# EAGLE library part 693161011911 (library WR-CRD)
WR-CRD SD Card Connector 4.0 Push & Push with Card Detection Kind Properties Gender:Socket Type:Push & Pull General Information Operating Temperature:-20up to +60 °C Electrical Properties Working Voltage:10V (AC) Withstanding Voltage:500 V (AC) Contact Resistance:100 mΩ Material Properties Insulator MateriaL:LCP Insulator Flammability Rating:UL94 V-0 Color:Black Contact Material:Copper Alloy Contact Plating: Gold Contact Type:Stamped Shielding Material:Stainless Steel Shielding Plating:Nickel <https://www.we-online.com/components/media/o72612v209%20Family_WR-CRD_693161011911.jpg> Details see: www.we-online.com/en/components/products/CRD_SMT_SD_PUSH_AND_PUSH_CARD_DETECTION_19_PINS Created by Yingchun,Shan 2019-11-22 2019 (C) Würth Elektronik
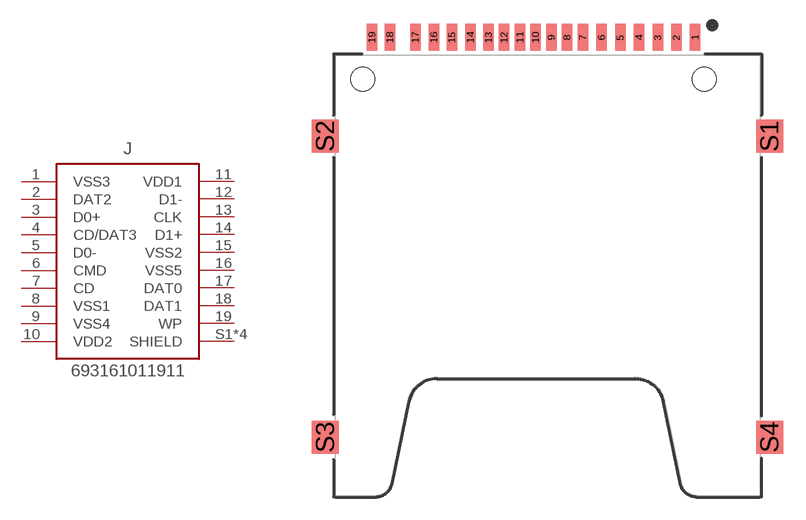
[diagram p9: symbol with the pads of 693161011911; footprint 693161011911]

Designator prefix J

## 693161011911 (DATASHEET-URL: https://www.we-online.com/redexpert/spec/693161011911?ae; GERDER: Socket; IR: 1A; MOUNT: SMT; PART-NUMBER: 693161011911; PINS: 19; TYPE: Push & Push; VALUE: 693161011911; WORKING-VOLTAGE: 10V(AC))  [693161011911]
1  VSS3
2  DAT2
3  D0+
4  CD/DAT3
5  D0-
6  CMD
7  CD
8  VSS1
9  VSS4
10  VDD2
11  VDD1
12  D1-
13  CLK
14  D1+
15  VSS2
16  VSS5
17  DAT0
18  DAT1
19  WP
S1  SHIELD
S2  SHIELD
S3  SHIELD
S4  SHIELD

## Footprint 693161011911 (pad centres in mm)
WR-CRD SD Card Connector 4.0 Push & Push with Card Detection 19 pins
smd 0.7 x 1.8: 1 9.85,0; 2 8.6,0; 3 7.35,0; 4 6.1,0; 5 4.85,0; 6 3.6,0; 7 2.35,0; 8 1.3,0; 9 0.25,0; 10 -0.8,0; 11 -1.84,0; 12 -2.9,0; 13 -3.94,0; 14 -5.15,0; 15 -6.39,0; 16 -7.59,0; 17 -8.82,0; 18 -10.52,0; 19 -11.72,0
smd 1.8 x 2.2: S1 14.825,-6.6; S2 -14.825,-6.6; S3 -14.825,-26.7; S4 14.825,-26.7
hole 1.6 at -12.35,-2.8
hole 1.6 at 10.45,-2.8